# Altium footprint library PCA9450BHNY.PcbLib: 3 footprints
Each footprint in its own frame and in the unit in brackets; x right, y up, seen from the top. Pads: shape width x height; smd on the part's side, far side on the other; paste and mask are expansions set on the pad; w line width, h text height; cw(c..) or ccw(c..) is an arc to the next point about the centre after c.
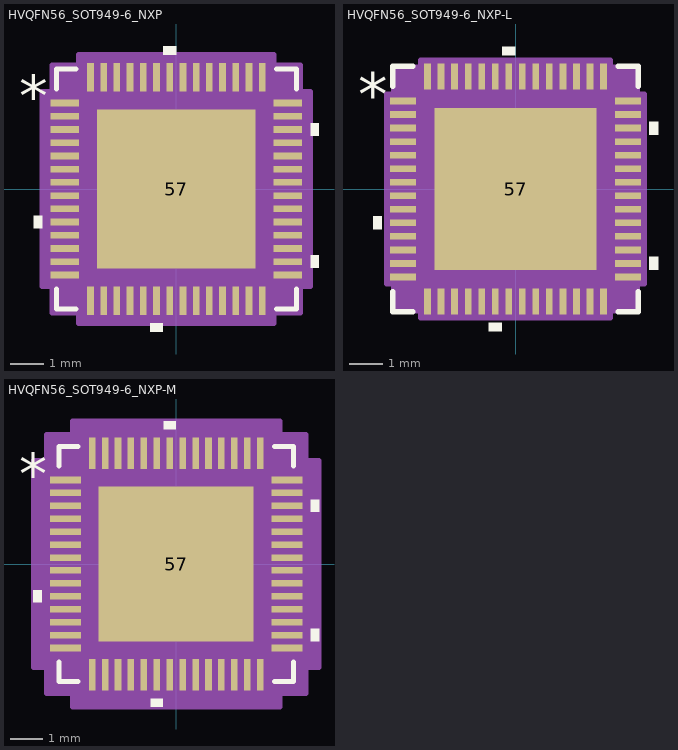
[diagram p0: the footprints below, top view; thin cyan lines are the x and y axes]

## HVQFN56_SOT949-6_NXP [mil]
pads (57):
  rect 34x8 smd paste+0 mask+0: 1(-133,102.36) 2(-133,86.61) 3(-133,70.87) 4(-133,55.12) 5(-133,39.37) 6(-133,23.62) 7(-133,7.87) 8(-133,-7.87) 9(-133,-23.62) 10(-133,-39.37) 11(-133,-55.12) 12(-133,-70.87) 13(-133,-86.61) 14(-133,-102.36) 29(133,-102.36) 30(133,-86.61) 31(133,-70.87) 32(133,-55.12) 33(133,-39.37) 34(133,-23.62) 35(133,-7.87) 36(133,7.87) 37(133,23.62) 38(133,39.37) 39(133,55.12) 40(133,70.87) 41(133,86.61) 42(133,102.36)
  rect 8x34 smd paste+0 mask+0: 15(-102.36,-133) 16(-86.61,-133) 17(-70.87,-133) 18(-55.12,-133) 19(-39.37,-133) 20(-23.62,-133) 21(-7.87,-133) 22(7.87,-133) 23(23.62,-133) 24(39.37,-133) 25(55.12,-133) 26(70.87,-133) 27(86.61,-133) 28(102.36,-133) 43(102.36,133) 44(86.61,133) 45(70.87,133) 46(55.12,133) 47(39.37,133) 48(23.62,133) 49(7.87,133) 50(-7.87,133) 51(-23.62,133) 52(-39.37,133) 53(-55.12,133) 54(-70.87,133) 55(-86.61,133) 56(-102.36,133)
  rect 189x189 smd paste-94.5 mask+0: 57(0,0)
Top Overlay:
  region: -160,-31.87 -170,-31.87 -170,-46.87 -160,-46.87
  region: -16.12,-160 -31.12,-160 -31.12,-170 -16.12,-170
  region: 160,-79.11 170,-79.11 170,-94.11 160,-94.11
  region: 160,78.37 170,78.37 170,63.37 160,63.37
  region: -0.37,160 -15.37,160 -15.37,170 -0.37,170
  lines w6: -143,-119.46 -143,-143 -119.46,-143 ; -143,119.46 -143,143 -119.46,143 ; 119.46,-143 143,-143 143,-119.46 ; 119.46,143 143,143 143,119.46
  text "*" at -187.5,85.24 h50
Top Paste:
  region: -35.44,90.56 -90.56,90.56 -90.56,35.44 -35.44,35.44
  region: -35.44,27.56 -90.56,27.56 -90.56,-27.56 -35.44,-27.56
  region: -35.44,-35.44 -90.56,-35.44 -90.56,-90.56 -35.44,-90.56
  region: 27.56,90.56 -27.56,90.56 -27.56,35.44 27.56,35.44
  region: 27.56,27.56 -27.56,27.56 -27.56,-27.56 27.56,-27.56
  region: 27.56,-35.44 -27.56,-35.44 -27.56,-90.56 27.56,-90.56
  region: 90.56,90.56 35.44,90.56 35.44,35.44 90.56,35.44
  region: 90.56,27.56 35.44,27.56 35.44,-27.56 90.56,-27.56
  region: 90.56,-35.44 35.44,-35.44 35.44,-90.56 90.56,-90.56
Mechanical 13:
  drawing of 233 lines, arcs and shapes, not listed
  text "*" at -128.5,85.24 h50
Mechanical 15:
  region: -116.36,-148 -148,-148 -148,-116.36 -160,-116.36 -160,116.36 -148,116.36 -148,148 -116.36,148 -116.36,160 116.36,160 116.36,148 148,148 148,116.36 160,116.36 160,-116.36 148,-116.36 148,-148 116.36,-148 116.36,-160 -116.36,-160
  lines w6: -160,-116.36 -148,-116.36 -148,-148 -116.36,-148 -116.36,-160 116.36,-160 116.36,-148 148,-148 148,-116.36 160,-116.36 160,116.36 148,116.36 148,148 116.36,148 116.36,160 -116.36,160 -116.36,148 -148,148 -148,116.36 -160,116.36 -160,-116.36
3D body "HVQFN56_SOT949-6_NXP.step": height 39.09, standoff 0, extent -137.99,-137.99 137.99,137.99

## HVQFN56_SOT949-6_NXP-L [mil]
pads (57):
  rect 30x8 smd paste+0 mask+0: 1(-131,102.36) 2(-131,86.61) 3(-131,70.87) 4(-131,55.12) 5(-131,39.37) 6(-131,23.62) 7(-131,7.87) 8(-131,-7.87) 9(-131,-23.62) 10(-131,-39.37) 11(-131,-55.12) 12(-131,-70.87) 13(-131,-86.61) 14(-131,-102.36) 29(131,-102.36) 30(131,-86.61) 31(131,-70.87) 32(131,-55.12) 33(131,-39.37) 34(131,-23.62) 35(131,-7.87) 36(131,7.87) 37(131,23.62) 38(131,39.37) 39(131,55.12) 40(131,70.87) 41(131,86.61) 42(131,102.36)
  rect 8x30 smd paste+0 mask+0: 15(-102.36,-131) 16(-86.61,-131) 17(-70.87,-131) 18(-55.12,-131) 19(-39.37,-131) 20(-23.62,-131) 21(-7.87,-131) 22(7.87,-131) 23(23.62,-131) 24(39.37,-131) 25(55.12,-131) 26(70.87,-131) 27(86.61,-131) 28(102.36,-131) 43(102.36,131) 44(86.61,131) 45(70.87,131) 46(55.12,131) 47(39.37,131) 48(23.62,131) 49(7.87,131) 50(-7.87,131) 51(-23.62,131) 52(-39.37,131) 53(-55.12,131) 54(-70.87,131) 55(-86.61,131) 56(-102.36,131)
  rect 189x189 smd paste-94.5 mask+0: 57(0,0)
Top Overlay:
  region: -156,-31.87 -166,-31.87 -166,-46.87 -156,-46.87
  region: -16.12,-156 -31.12,-156 -31.12,-166 -16.12,-166
  region: 156,-79.11 166,-79.11 166,-94.11 156,-94.11
  region: 156,78.37 166,78.37 166,63.37 156,63.37
  region: -0.37,156 -15.37,156 -15.37,166 -0.37,166
  lines w6: -143,-119.46 -143,-143 -119.46,-143 ; -143,119.46 -143,143 -119.46,143 ; 119.46,-143 143,-143 143,-119.46 ; 119.46,143 143,143 143,119.46
  text "*" at -183.5,85.24 h50
Top Paste:
  region: -35.44,90.56 -90.56,90.56 -90.56,35.44 -35.44,35.44
  region: -35.44,27.56 -90.56,27.56 -90.56,-27.56 -35.44,-27.56
  region: -35.44,-35.44 -90.56,-35.44 -90.56,-90.56 -35.44,-90.56
  region: 27.56,90.56 -27.56,90.56 -27.56,35.44 27.56,35.44
  region: 27.56,27.56 -27.56,27.56 -27.56,-27.56 27.56,-27.56
  region: 27.56,-35.44 -27.56,-35.44 -27.56,-90.56 27.56,-90.56
  region: 90.56,90.56 35.44,90.56 35.44,35.44 90.56,35.44
  region: 90.56,27.56 35.44,27.56 35.44,-27.56 90.56,-27.56
  region: 90.56,-35.44 35.44,-35.44 35.44,-90.56 90.56,-90.56
Mechanical 13:
  drawing of 233 lines, arcs and shapes, not listed
  text "*" at -128.5,85.24 h50
Mechanical 15:
  region: -110.36,-142 -142,-142 -142,-110.36 -150,-110.36 -150,110.36 -142,110.36 -142,142 -110.36,142 -110.36,150 110.36,150 110.36,142 142,142 142,110.36 150,110.36 150,-110.36 142,-110.36 142,-142 110.36,-142 110.36,-150 -110.36,-150
  lines w6: -150,-110.36 -142,-110.36 -142,-142 -110.36,-142 -110.36,-150 110.36,-150 110.36,-142 142,-142 142,-110.36 150,-110.36 150,110.36 142,110.36 142,142 110.36,142 110.36,150 -110.36,150 -110.36,142 -142,142 -142,110.36 -150,110.36 -150,-110.36
3D body "HVQFN56_SOT949-6_NXP.step": height 39.09, standoff 0, extent -137.99,-137.99 137.99,137.99

## HVQFN56_SOT949-6_NXP-M [mil]
pads (57):
  rect 38x8 smd paste+0 mask+0: 1(-135,102.36) 2(-135,86.61) 3(-135,70.87) 4(-135,55.12) 5(-135,39.37) 6(-135,23.62) 7(-135,7.87) 8(-135,-7.87) 9(-135,-23.62) 10(-135,-39.37) 11(-135,-55.12) 12(-135,-70.87) 13(-135,-86.61) 14(-135,-102.36) 29(135,-102.36) 30(135,-86.61) 31(135,-70.87) 32(135,-55.12) 33(135,-39.37) 34(135,-23.62) 35(135,-7.87) 36(135,7.87) 37(135,23.62) 38(135,39.37) 39(135,55.12) 40(135,70.87) 41(135,86.61) 42(135,102.36)
  rect 8x38 smd paste+0 mask+0: 15(-102.36,-135) 16(-86.61,-135) 17(-70.87,-135) 18(-55.12,-135) 19(-39.37,-135) 20(-23.62,-135) 21(-7.87,-135) 22(7.87,-135) 23(23.62,-135) 24(39.37,-135) 25(55.12,-135) 26(70.87,-135) 27(86.61,-135) 28(102.36,-135) 43(102.36,135) 44(86.61,135) 45(70.87,135) 46(55.12,135) 47(39.37,135) 48(23.62,135) 49(7.87,135) 50(-7.87,135) 51(-23.62,135) 52(-39.37,135) 53(-55.12,135) 54(-70.87,135) 55(-86.61,135) 56(-102.36,135)
  rect 189x189 smd paste-94.5 mask+0: 57(0,0)
Top Overlay:
  region: -164,-31.87 -174,-31.87 -174,-46.87 -164,-46.87
  region: -16.12,-164 -31.12,-164 -31.12,-174 -16.12,-174
  region: 164,-79.11 174,-79.11 174,-94.11 164,-94.11
  region: 164,78.37 174,78.37 174,63.37 164,63.37
  region: -0.37,164 -15.37,164 -15.37,174 -0.37,174
  lines w6: -143,-119.46 -143,-143 -119.46,-143 ; -143,119.46 -143,143 -119.46,143 ; 119.46,-143 143,-143 143,-119.46 ; 119.46,143 143,143 143,119.46
  text "*" at -191.5,85.24 h50
Top Paste:
  region: -35.44,90.56 -90.56,90.56 -90.56,35.44 -35.44,35.44
  region: -35.44,27.56 -90.56,27.56 -90.56,-27.56 -35.44,-27.56
  region: -35.44,-35.44 -90.56,-35.44 -90.56,-90.56 -35.44,-90.56
  region: 27.56,90.56 -27.56,90.56 -27.56,35.44 27.56,35.44
  region: 27.56,27.56 -27.56,27.56 -27.56,-27.56 27.56,-27.56
  region: 27.56,-35.44 -27.56,-35.44 -27.56,-90.56 27.56,-90.56
  region: 90.56,90.56 35.44,90.56 35.44,35.44 90.56,35.44
  region: 90.56,27.56 35.44,27.56 35.44,-27.56 90.56,-27.56
  region: 90.56,-35.44 35.44,-35.44 35.44,-90.56 90.56,-90.56
Mechanical 13:
  drawing of 233 lines, arcs and shapes, not listed
  text "*" at -128.5,85.24 h50
Mechanical 15:
  region: -126.36,-158 -158,-158 -158,-126.36 -174,-126.36 -174,126.36 -158,126.36 -158,158 -126.36,158 -126.36,174 126.36,174 126.36,158 158,158 158,126.36 174,126.36 174,-126.36 158,-126.36 158,-158 126.36,-158 126.36,-174 -126.36,-174
  lines w6: -174,-126.36 -158,-126.36 -158,-158 -126.36,-158 -126.36,-174 126.36,-174 126.36,-158 158,-158 158,-126.36 174,-126.36 174,126.36 158,126.36 158,158 126.36,158 126.36,174 -126.36,174 -126.36,158 -158,158 -158,126.36 -174,126.36 -174,-126.36
3D body "HVQFN56_SOT949-6_NXP.step": height 39.09, standoff 0, extent -137.99,-137.99 137.99,137.99